# Altium schematic symbol library BD140.SchLib: 1 symbol
Pins are listed as number, name and electrical type; pins without a type are passive.

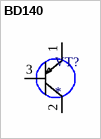
[diagram p0: symbol BD140]

## BD140
designator VT?
footprint BD140_TO-126_BEND
pins: 1 E, 2 C, 3 B